# EAGLE library part MOLEX_CONNECTOR_7PINS (library con-special_purpose)
Molex Picoblade connector, 7 pins SMD
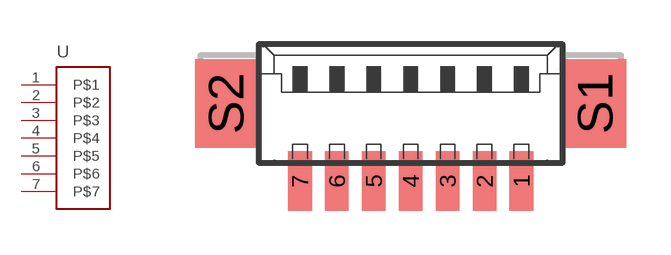
[diagram p13: symbol with the pads of MOLEX_CONNECTOR_7PINS; footprint MOLEX_CONNECTOR_7PINS]

Designator prefix -

## MOLEX_CONNECTOR_7PINS (DISTRIBUTOR: Digikey; ORDER_CODE: WM7625CT-ND; PLACE_PART: YES; UNIT_PRICE: 1.28; UNIT_PRICE_100X: 0.9673; UNIT_PRICE_10X: 1.121; UNIT_PRICE_25X: 1.0552; UNIT_PRICE_50X: 1.0112)  [MOLEX_CONNECTOR_7PINS]
1  P$1
2  P$2
3  P$3
4  P$4
5  P$5
6  P$6
7  P$7

## MOLEX_CONNECTOR_7PINSHIROSE_DF13 (DISTRIBUTOR: Digikey; ORDER_CODE: H2224-ND; PLACE_PART: YES)  [MOLEX_CONNECTOR_7PINS]
Pads as for MOLEX_CONNECTOR_7PINS

## Footprint MOLEX_CONNECTOR_7PINS (pad centres in mm)
smd 0.8 x 2: 1 3.75,-2; 2 2.5,-2; 3 1.25,-2; 4 0,-2; 5 -1.25,-2; 6 -2.5,-2; 7 -3.75,-2
smd 2.1 x 3: S1 6.25,0.625; S2 -6.25,0.625